# EAGLE library part MIL_BOXHEADER_10P (library okamoto)
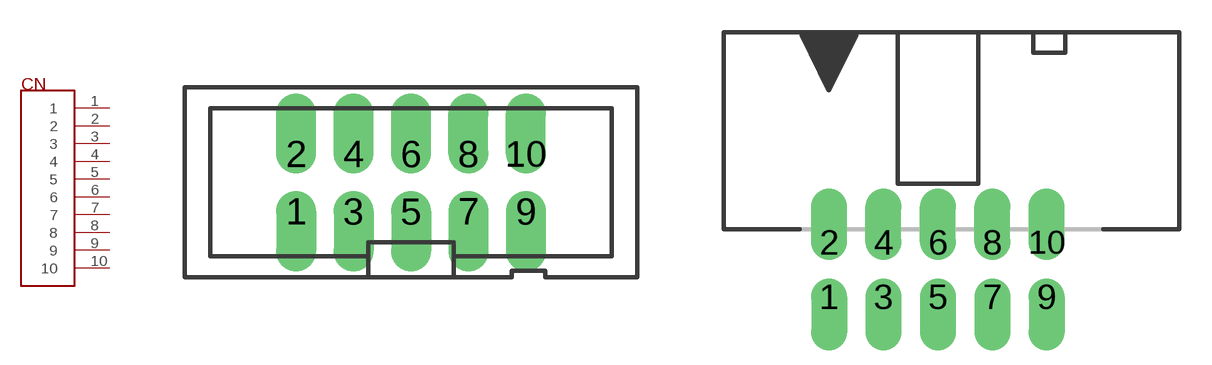
[diagram p18: symbol with the pads of PAK100/2500-10; footprints PAK100/2500-10, PAK100/2500-5-10]

Designator prefix CN

## MIL_BOXHEADER_10P, MIL_BOXHEADER_10P5  [PAK100/2500-10]
1  1
2  2
3  3
4  4
5  5
6  6
7  7
8  8
9  9
10  10

## MIL_BOXHEADER_10P5  [PAK100/2500-5-10]
Pads as for PAK100/2500-10

## Footprint PAK100/2500-10 (pad centres in mm)
3M (TM) Pak 100 4-Wall Header Straight Source: 3M
drill 1 pad 1.778 offset: 1 -5.08,-1.27; 2 -5.08,1.27; 3 -2.54,-1.27; 4 -2.54,1.27; 5 0,-1.27; 6 0,1.27; 7 2.54,-1.27; 8 2.54,1.27; 9 5.08,-1.27; 10 5.08,1.27

## Footprint PAK100/2500-5-10 (pad centres in mm)
3M (TM) Pak 100 4-Wall Header Right Angle Source: 3M
drill 1 pad 1.676 offset: 1 -5.08,-1.27; 2 -5.08,1.27; 3 -2.54,-1.27; 4 -2.54,1.27; 5 0,-1.27; 6 0,1.27; 7 2.54,-1.27; 8 2.54,1.27; 9 5.08,-1.27; 10 5.08,1.27